# EAGLE library part IMU_MPU9250 (library Project#2)
MPU9250 is a motion tracking device consisting of a QFN (3mm x 3mm) package
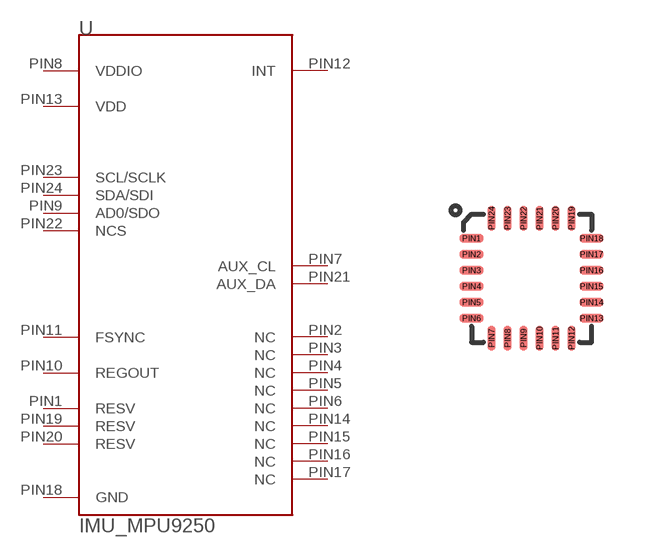
[diagram p2: symbol with the pads of IMU_QFN_3MMX3MM; footprint IMU_QFN_3MMX3MM]

Designator prefix U

## IMU_MPU9250  [IMU_QFN_3MMX3MM]
PIN1  RESV
PIN2  NC
PIN3  NC
PIN4  NC
PIN5  NC
PIN6  NC
PIN7  AUX_CL
PIN8  VDDIO
PIN9  AD0/SDO
PIN10  REGOUT
PIN11  FSYNC
PIN12  INT
PIN13  VDD
PIN14  NC
PIN15  NC
PIN16  NC
PIN17  NC
PIN18  GND
PIN19  RESV
PIN20  RESV
PIN21  AUX_DA
PIN22  NCS
PIN23  SCL/SCLK
PIN24  SDA/SDI

## Footprint IMU_QFN_3MMX3MM (pad centres in mm)
smd 0.6 x 0.2: PIN1 -1.5,1; PIN2 -1.5,0.6; PIN3 -1.5,0.2; PIN4 -1.5,-0.2; PIN5 -1.5,-0.6; PIN6 -1.5,-1; PIN13 1.5,-1; PIN14 1.5,-0.6; PIN15 1.5,-0.2; PIN16 1.5,0.2; PIN17 1.5,0.6; PIN18 1.5,1
smd 0.2 x 0.6: PIN7 -1,-1.5; PIN8 -0.6,-1.5; PIN9 -0.2,-1.5; PIN10 0.2,-1.5; PIN11 0.6,-1.5; PIN12 1,-1.5; PIN19 1,1.5; PIN20 0.6,1.5; PIN21 0.2,1.5; PIN22 -0.2,1.5; PIN23 -0.6,1.5; PIN24 -1,1.5